# Altium footprint library LED_THT.PcbLib: 81 footprints (part 2 of 6)
Each footprint in its own frame and in the unit in brackets; x right, y up, seen from the top. Pads: shape width x height; smd on the part's side, far side on the other; paste and mask are expansions set on the pad; w line width, h text height; cw(c..) or ccw(c..) is an arc to the next point about the centre after c.
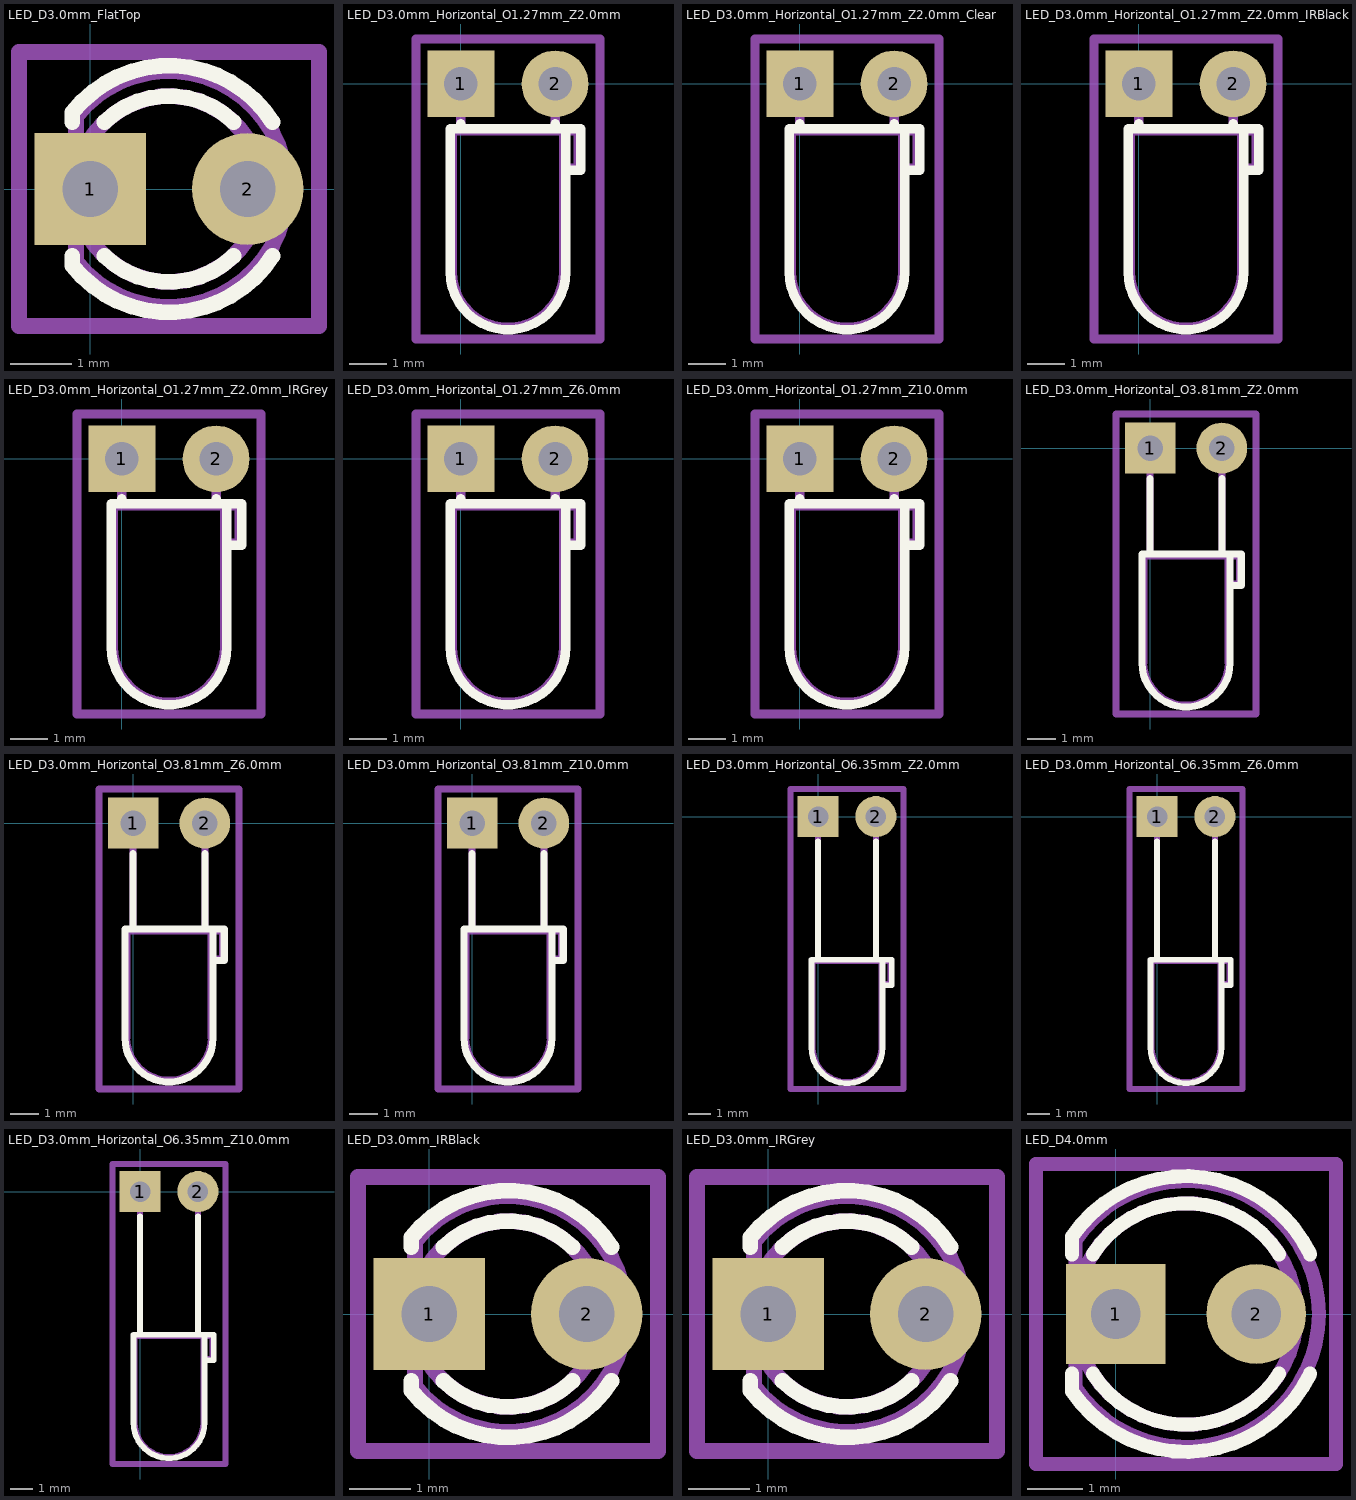
[diagram p1: the footprints below, top view; thin cyan lines are the x and y axes]

## LED_D3.0mm_FlatTop [mm]
pads (2):
  rect 1.8x1.8 hole 0.9: 1(0,0)
  round 1.8 hole 0.9: 2(2.54,0)
F.SilkS:
  lines w0.254: -0.29,-1.08 -0.29,-1.236 ccw(c1.27,0) 2.941,-1.08 ; -0.29,1.08 -0.29,1.236 cw(c1.27,0) 2.941,1.08 ; 0.229,-1.08 ccw(c1.27,0) 2.311,-1.08 ; 0.229,1.08 cw(c1.27,0) 2.311,1.08
Top Assembly:
  circle w0.254: c1.27,0 r1.5
  lines w0.254: -0.23,-1.166 ccw(c1.27,0) -0.23,1.166 -0.23,-1.166
  text "'.Designator'" at -1.967,-0.672 h0.8
Top Courtyard:
  lines w0.254: -1.15,-2.21 3.69,-2.21 3.69,2.21 -1.15,2.21 -1.15,-2.21
Top Designator:
  text ".Designator" at -6.468,-0.508 h1.52

## LED_D3.0mm_Horizontal_O1.27mm_Z2.0mm [mm]
pads (2):
  rect 1.8x1.8 hole 0.9: 1(0,0)
  round 1.8 hole 0.9: 2(2.54,0)
F.SilkS:
  lines w0.254: 2.83,-1.21 2.83,-2.33 3.23,-2.33 3.23,-1.21 2.83,-1.21 ; 2.83,-1.21 2.83,-5.07 cw(c1.27,-5.07) -0.29,-5.07 -0.29,-1.21 2.83,-1.21 ; 0,-1.21 0,-1.08 0,-1.21 ; 2.54,-1.21 2.54,-1.08 2.54,-1.21
Top Assembly:
  lines w0.254: 2.77,-1.27 2.77,-2.27 3.17,-2.27 3.17,-1.27 2.77,-1.27 ; 2.77,-1.27 2.77,-5.07 cw(c1.27,-5.07) -0.23,-5.07 -0.23,-1.27 2.77,-1.27 ; 0,-1.27 0,0 0,-1.27 ; 2.54,-1.27 2.54,0 2.54,-1.27
  text "'.Designator'" at -1.967,-3.792 h0.8
Top Courtyard:
  lines w0.254: -1.21,-6.88 3.75,-6.88 3.75,1.21 -1.21,1.21 -1.21,-6.88
Top Designator:
  text ".Designator" at -6.468,-3.343 h1.52

## LED_D3.0mm_Horizontal_O1.27mm_Z2.0mm_Clear [mm]
pads (2):
  rect 1.8x1.8 hole 0.9: 1(0,0)
  round 1.8 hole 0.9: 2(2.54,0)
F.SilkS:
  lines w0.254: 2.83,-1.21 2.83,-2.33 3.23,-2.33 3.23,-1.21 2.83,-1.21 ; 2.83,-1.21 2.83,-5.07 cw(c1.27,-5.07) -0.29,-5.07 -0.29,-1.21 2.83,-1.21 ; 0,-1.21 0,-1.08 0,-1.21 ; 2.54,-1.21 2.54,-1.08 2.54,-1.21
Top Assembly:
  lines w0.254: 2.77,-1.27 2.77,-2.27 3.17,-2.27 3.17,-1.27 2.77,-1.27 ; 2.77,-1.27 2.77,-5.07 cw(c1.27,-5.07) -0.23,-5.07 -0.23,-1.27 2.77,-1.27 ; 0,-1.27 0,0 0,-1.27 ; 2.54,-1.27 2.54,0 2.54,-1.27
  text "'.Designator'" at -1.967,-3.792 h0.8
Top Courtyard:
  lines w0.254: -1.21,-6.88 3.75,-6.88 3.75,1.21 -1.21,1.21 -1.21,-6.88
Top Designator:
  text ".Designator" at -6.468,-3.343 h1.52

## LED_D3.0mm_Horizontal_O1.27mm_Z2.0mm_IRBlack [mm]
pads (2):
  rect 1.8x1.8 hole 0.9: 1(0,0)
  round 1.8 hole 0.9: 2(2.54,0)
F.SilkS:
  lines w0.254: 2.83,-1.21 2.83,-2.33 3.23,-2.33 3.23,-1.21 2.83,-1.21 ; 2.83,-1.21 2.83,-5.07 cw(c1.27,-5.07) -0.29,-5.07 -0.29,-1.21 2.83,-1.21 ; 0,-1.21 0,-1.08 0,-1.21 ; 2.54,-1.21 2.54,-1.08 2.54,-1.21
Top Assembly:
  lines w0.254: 2.77,-1.27 2.77,-2.27 3.17,-2.27 3.17,-1.27 2.77,-1.27 ; 2.77,-1.27 2.77,-5.07 cw(c1.27,-5.07) -0.23,-5.07 -0.23,-1.27 2.77,-1.27 ; 0,-1.27 0,0 0,-1.27 ; 2.54,-1.27 2.54,0 2.54,-1.27
  text "'.Designator'" at -1.967,-3.792 h0.8
Top Courtyard:
  lines w0.254: -1.21,-6.88 3.75,-6.88 3.75,1.21 -1.21,1.21 -1.21,-6.88
Top Designator:
  text ".Designator" at -6.468,-3.343 h1.52

## LED_D3.0mm_Horizontal_O1.27mm_Z2.0mm_IRGrey [mm]
pads (2):
  rect 1.8x1.8 hole 0.9: 1(0,0)
  round 1.8 hole 0.9: 2(2.54,0)
F.SilkS:
  lines w0.254: 2.83,-1.21 2.83,-2.33 3.23,-2.33 3.23,-1.21 2.83,-1.21 ; 2.83,-1.21 2.83,-5.07 cw(c1.27,-5.07) -0.29,-5.07 -0.29,-1.21 2.83,-1.21 ; 0,-1.21 0,-1.08 0,-1.21 ; 2.54,-1.21 2.54,-1.08 2.54,-1.21
Top Assembly:
  lines w0.254: 2.77,-1.27 2.77,-2.27 3.17,-2.27 3.17,-1.27 2.77,-1.27 ; 2.77,-1.27 2.77,-5.07 cw(c1.27,-5.07) -0.23,-5.07 -0.23,-1.27 2.77,-1.27 ; 0,-1.27 0,0 0,-1.27 ; 2.54,-1.27 2.54,0 2.54,-1.27
  text "'.Designator'" at -1.967,-3.792 h0.8
Top Courtyard:
  lines w0.254: -1.21,-6.88 3.75,-6.88 3.75,1.21 -1.21,1.21 -1.21,-6.88
Top Designator:
  text ".Designator" at -6.468,-3.343 h1.52

## LED_D3.0mm_Horizontal_O1.27mm_Z6.0mm [mm]
pads (2):
  rect 1.8x1.8 hole 0.9: 1(0,0)
  round 1.8 hole 0.9: 2(2.54,0)
F.SilkS:
  lines w0.254: 2.83,-1.21 2.83,-2.33 3.23,-2.33 3.23,-1.21 2.83,-1.21 ; 2.83,-1.21 2.83,-5.07 cw(c1.27,-5.07) -0.29,-5.07 -0.29,-1.21 2.83,-1.21 ; 0,-1.21 0,-1.08 0,-1.21 ; 2.54,-1.21 2.54,-1.08 2.54,-1.21
Top Assembly:
  lines w0.254: 2.77,-1.27 2.77,-2.27 3.17,-2.27 3.17,-1.27 2.77,-1.27 ; 2.77,-1.27 2.77,-5.07 cw(c1.27,-5.07) -0.23,-5.07 -0.23,-1.27 2.77,-1.27 ; 0,-1.27 0,0 0,-1.27 ; 2.54,-1.27 2.54,0 2.54,-1.27
  text "'.Designator'" at -1.967,-3.792 h0.8
Top Courtyard:
  lines w0.254: -1.21,-6.88 3.75,-6.88 3.75,1.21 -1.21,1.21 -1.21,-6.88
Top Designator:
  text ".Designator" at -6.468,-3.343 h1.52

## LED_D3.0mm_Horizontal_O1.27mm_Z10.0mm [mm]
pads (2):
  rect 1.8x1.8 hole 0.9: 1(0,0)
  round 1.8 hole 0.9: 2(2.54,0)
F.SilkS:
  lines w0.254: 2.83,-1.21 2.83,-2.33 3.23,-2.33 3.23,-1.21 2.83,-1.21 ; 2.83,-1.21 2.83,-5.07 cw(c1.27,-5.07) -0.29,-5.07 -0.29,-1.21 2.83,-1.21 ; 0,-1.21 0,-1.08 0,-1.21 ; 2.54,-1.21 2.54,-1.08 2.54,-1.21
Top Assembly:
  lines w0.254: 2.77,-1.27 2.77,-2.27 3.17,-2.27 3.17,-1.27 2.77,-1.27 ; 2.77,-1.27 2.77,-5.07 cw(c1.27,-5.07) -0.23,-5.07 -0.23,-1.27 2.77,-1.27 ; 0,-1.27 0,0 0,-1.27 ; 2.54,-1.27 2.54,0 2.54,-1.27
  text "'.Designator'" at -1.967,-3.792 h0.8
Top Courtyard:
  lines w0.254: -1.21,-6.88 3.75,-6.88 3.75,1.21 -1.21,1.21 -1.21,-6.88
Top Designator:
  text ".Designator" at -6.468,-3.343 h1.52

## LED_D3.0mm_Horizontal_O3.81mm_Z2.0mm [mm]
pads (2):
  rect 1.8x1.8 hole 0.9: 1(0,0)
  round 1.8 hole 0.9: 2(2.54,0)
F.SilkS:
  lines w0.254: 2.83,-3.75 2.83,-4.87 3.23,-4.87 3.23,-3.75 2.83,-3.75 ; 2.83,-3.75 2.83,-7.61 cw(c1.27,-7.61) -0.29,-7.61 -0.29,-3.75 2.83,-3.75 ; 0,-3.75 0,-1.08 0,-3.75 ; 2.54,-3.75 2.54,-1.08 2.54,-3.75
Top Assembly:
  lines w0.254: 2.77,-3.81 2.77,-4.81 3.17,-4.81 3.17,-3.81 2.77,-3.81 ; 2.77,-3.81 2.77,-7.61 cw(c1.27,-7.61) -0.23,-7.61 -0.23,-3.81 2.77,-3.81 ; 0,-3.81 0,0 0,-3.81 ; 2.54,-3.81 2.54,0 2.54,-3.81
  text "'.Designator'" at -1.967,-6.332 h0.8
Top Courtyard:
  lines w0.254: -1.21,-9.42 3.75,-9.42 3.75,1.21 -1.21,1.21 -1.21,-9.42
Top Designator:
  text ".Designator" at -6.468,-4.613 h1.52

## LED_D3.0mm_Horizontal_O3.81mm_Z6.0mm [mm]
pads (2):
  rect 1.8x1.8 hole 0.9: 1(0,0)
  round 1.8 hole 0.9: 2(2.54,0)
F.SilkS:
  lines w0.254: 2.83,-3.75 2.83,-4.87 3.23,-4.87 3.23,-3.75 2.83,-3.75 ; 2.83,-3.75 2.83,-7.61 cw(c1.27,-7.61) -0.29,-7.61 -0.29,-3.75 2.83,-3.75 ; 0,-3.75 0,-1.08 0,-3.75 ; 2.54,-3.75 2.54,-1.08 2.54,-3.75
Top Assembly:
  lines w0.254: 2.77,-3.81 2.77,-4.81 3.17,-4.81 3.17,-3.81 2.77,-3.81 ; 2.77,-3.81 2.77,-7.61 cw(c1.27,-7.61) -0.23,-7.61 -0.23,-3.81 2.77,-3.81 ; 0,-3.81 0,0 0,-3.81 ; 2.54,-3.81 2.54,0 2.54,-3.81
  text "'.Designator'" at -1.967,-6.332 h0.8
Top Courtyard:
  lines w0.254: -1.21,-9.42 3.75,-9.42 3.75,1.21 -1.21,1.21 -1.21,-9.42
Top Designator:
  text ".Designator" at -6.468,-4.613 h1.52

## LED_D3.0mm_Horizontal_O3.81mm_Z10.0mm [mm]
pads (2):
  rect 1.8x1.8 hole 0.9: 1(0,0)
  round 1.8 hole 0.9: 2(2.54,0)
F.SilkS:
  lines w0.254: 2.83,-3.75 2.83,-4.87 3.23,-4.87 3.23,-3.75 2.83,-3.75 ; 2.83,-3.75 2.83,-7.61 cw(c1.27,-7.61) -0.29,-7.61 -0.29,-3.75 2.83,-3.75 ; 0,-3.75 0,-1.08 0,-3.75 ; 2.54,-3.75 2.54,-1.08 2.54,-3.75
Top Assembly:
  lines w0.254: 2.77,-3.81 2.77,-4.81 3.17,-4.81 3.17,-3.81 2.77,-3.81 ; 2.77,-3.81 2.77,-7.61 cw(c1.27,-7.61) -0.23,-7.61 -0.23,-3.81 2.77,-3.81 ; 0,-3.81 0,0 0,-3.81 ; 2.54,-3.81 2.54,0 2.54,-3.81
  text "'.Designator'" at -1.967,-6.332 h0.8
Top Courtyard:
  lines w0.254: -1.21,-9.42 3.75,-9.42 3.75,1.21 -1.21,1.21 -1.21,-9.42
Top Designator:
  text ".Designator" at -6.468,-4.613 h1.52

## LED_D3.0mm_Horizontal_O6.35mm_Z2.0mm [mm]
pads (2):
  rect 1.8x1.8 hole 0.9: 1(0,0)
  round 1.8 hole 0.9: 2(2.54,0)
F.SilkS:
  lines w0.254: 2.83,-6.29 2.83,-7.41 3.23,-7.41 3.23,-6.29 2.83,-6.29 ; 2.83,-6.29 2.83,-10.15 cw(c1.27,-10.15) -0.29,-10.15 -0.29,-6.29 2.83,-6.29 ; 0,-6.29 0,-1.08 0,-6.29 ; 2.54,-6.29 2.54,-1.08 2.54,-6.29
Top Assembly:
  lines w0.254: 2.77,-6.35 2.77,-7.35 3.17,-7.35 3.17,-6.35 2.77,-6.35 ; 2.77,-6.35 2.77,-10.15 cw(c1.27,-10.15) -0.23,-10.15 -0.23,-6.35 2.77,-6.35 ; 0,-6.35 0,0 0,-6.35 ; 2.54,-6.35 2.54,0 2.54,-6.35
  text "'.Designator'" at -1.967,-8.872 h0.8
Top Courtyard:
  lines w0.254: -1.21,-11.96 3.75,-11.96 3.75,1.21 -1.21,1.21 -1.21,-11.96
Top Designator:
  text ".Designator" at -6.468,-5.883 h1.52

## LED_D3.0mm_Horizontal_O6.35mm_Z6.0mm [mm]
pads (2):
  rect 1.8x1.8 hole 0.9: 1(0,0)
  round 1.8 hole 0.9: 2(2.54,0)
F.SilkS:
  lines w0.254: 2.83,-6.29 2.83,-7.41 3.23,-7.41 3.23,-6.29 2.83,-6.29 ; 2.83,-6.29 2.83,-10.15 cw(c1.27,-10.15) -0.29,-10.15 -0.29,-6.29 2.83,-6.29 ; 0,-6.29 0,-1.08 0,-6.29 ; 2.54,-6.29 2.54,-1.08 2.54,-6.29
Top Assembly:
  lines w0.254: 2.77,-6.35 2.77,-7.35 3.17,-7.35 3.17,-6.35 2.77,-6.35 ; 2.77,-6.35 2.77,-10.15 cw(c1.27,-10.15) -0.23,-10.15 -0.23,-6.35 2.77,-6.35 ; 0,-6.35 0,0 0,-6.35 ; 2.54,-6.35 2.54,0 2.54,-6.35
  text "'.Designator'" at -1.967,-8.872 h0.8
Top Courtyard:
  lines w0.254: -1.21,-11.96 3.75,-11.96 3.75,1.21 -1.21,1.21 -1.21,-11.96
Top Designator:
  text ".Designator" at -6.468,-5.883 h1.52

## LED_D3.0mm_Horizontal_O6.35mm_Z10.0mm [mm]
pads (2):
  rect 1.8x1.8 hole 0.9: 1(0,0)
  round 1.8 hole 0.9: 2(2.54,0)
F.SilkS:
  lines w0.254: 2.83,-6.29 2.83,-7.41 3.23,-7.41 3.23,-6.29 2.83,-6.29 ; 2.83,-6.29 2.83,-10.15 cw(c1.27,-10.15) -0.29,-10.15 -0.29,-6.29 2.83,-6.29 ; 0,-6.29 0,-1.08 0,-6.29 ; 2.54,-6.29 2.54,-1.08 2.54,-6.29
Top Assembly:
  lines w0.254: 2.77,-6.35 2.77,-7.35 3.17,-7.35 3.17,-6.35 2.77,-6.35 ; 2.77,-6.35 2.77,-10.15 cw(c1.27,-10.15) -0.23,-10.15 -0.23,-6.35 2.77,-6.35 ; 0,-6.35 0,0 0,-6.35 ; 2.54,-6.35 2.54,0 2.54,-6.35
  text "'.Designator'" at -1.967,-8.872 h0.8
Top Courtyard:
  lines w0.254: -1.21,-11.96 3.75,-11.96 3.75,1.21 -1.21,1.21 -1.21,-11.96
Top Designator:
  text ".Designator" at -6.468,-5.883 h1.52

## LED_D3.0mm_IRBlack [mm]
pads (2):
  rect 1.8x1.8 hole 0.9: 1(0,0)
  round 1.8 hole 0.9: 2(2.54,0)
F.SilkS:
  lines w0.254: -0.29,-1.08 -0.29,-1.236 ccw(c1.27,0) 2.941,-1.08 ; -0.29,1.08 -0.29,1.236 cw(c1.27,0) 2.941,1.08 ; 0.229,-1.08 ccw(c1.27,0) 2.311,-1.08 ; 0.229,1.08 cw(c1.27,0) 2.311,1.08
Top Assembly:
  circle w0.254: c1.27,0 r1.5
  lines w0.254: -0.23,-1.166 ccw(c1.27,0) -0.23,1.166 -0.23,-1.166
  text "'.Designator'" at -1.967,-0.672 h0.8
Top Courtyard:
  lines w0.254: -1.15,-2.21 3.69,-2.21 3.69,2.21 -1.15,2.21 -1.15,-2.21
Top Designator:
  text ".Designator" at -6.468,-0.508 h1.52

## LED_D3.0mm_IRGrey [mm]
pads (2):
  rect 1.8x1.8 hole 0.9: 1(0,0)
  round 1.8 hole 0.9: 2(2.54,0)
F.SilkS:
  lines w0.254: -0.29,-1.08 -0.29,-1.236 ccw(c1.27,0) 2.941,-1.08 ; -0.29,1.08 -0.29,1.236 cw(c1.27,0) 2.941,1.08 ; 0.229,-1.08 ccw(c1.27,0) 2.311,-1.08 ; 0.229,1.08 cw(c1.27,0) 2.311,1.08
Top Assembly:
  circle w0.254: c1.27,0 r1.5
  lines w0.254: -0.23,-1.166 ccw(c1.27,0) -0.23,1.166 -0.23,-1.166
  text "'.Designator'" at -1.967,-0.672 h0.8
Top Courtyard:
  lines w0.254: -1.15,-2.21 3.69,-2.21 3.69,2.21 -1.15,2.21 -1.15,-2.21
Top Designator:
  text ".Designator" at -6.468,-0.508 h1.52

## LED_D4.0mm [mm]
pads (2):
  rect 1.8x1.8 hole 0.9: 1(0,0)
  round 1.8 hole 0.9: 2(2.54,0)
F.SilkS:
  lines w0.254: -0.79,-1.399 -0.79,-1.08 ; -0.79,-1.399 ccw(c1.27,0) 3.514,-1.08 ; -0.79,1.08 -0.79,1.399 ; -0.79,1.399 cw(c1.27,0) 3.514,1.08 ; -0.413,-1.08 ccw(c1.27,0) 2.953,-1.08 ; -0.413,1.08 cw(c1.27,0) 2.953,1.08
Top Assembly:
  circle w0.254: c1.27,0 r2
  lines w0.254: -0.73,-1.327 ccw(c1.27,0) -0.73,1.327 -0.73,-1.327
  text "'.Designator'" at -1.967,-0.672 h0.8
Top Courtyard:
  lines w0.254: -1.44,-2.71 3.98,-2.71 3.98,2.71 -1.44,2.71 -1.44,-2.71
Top Designator:
  text ".Designator" at -6.468,-0.508 h1.52